# Altium footprint library InkJetFin Footprint Lib.PcbLib: 33 footprints (part 2 of 3)
Each footprint in its own frame and in the unit in brackets; x right, y up, seen from the top. Pads: shape width x height; smd on the part's side, far side on the other; paste and mask are expansions set on the pad; w line width, h text height; cw(c..) or ccw(c..) is an arc to the next point about the centre after c.
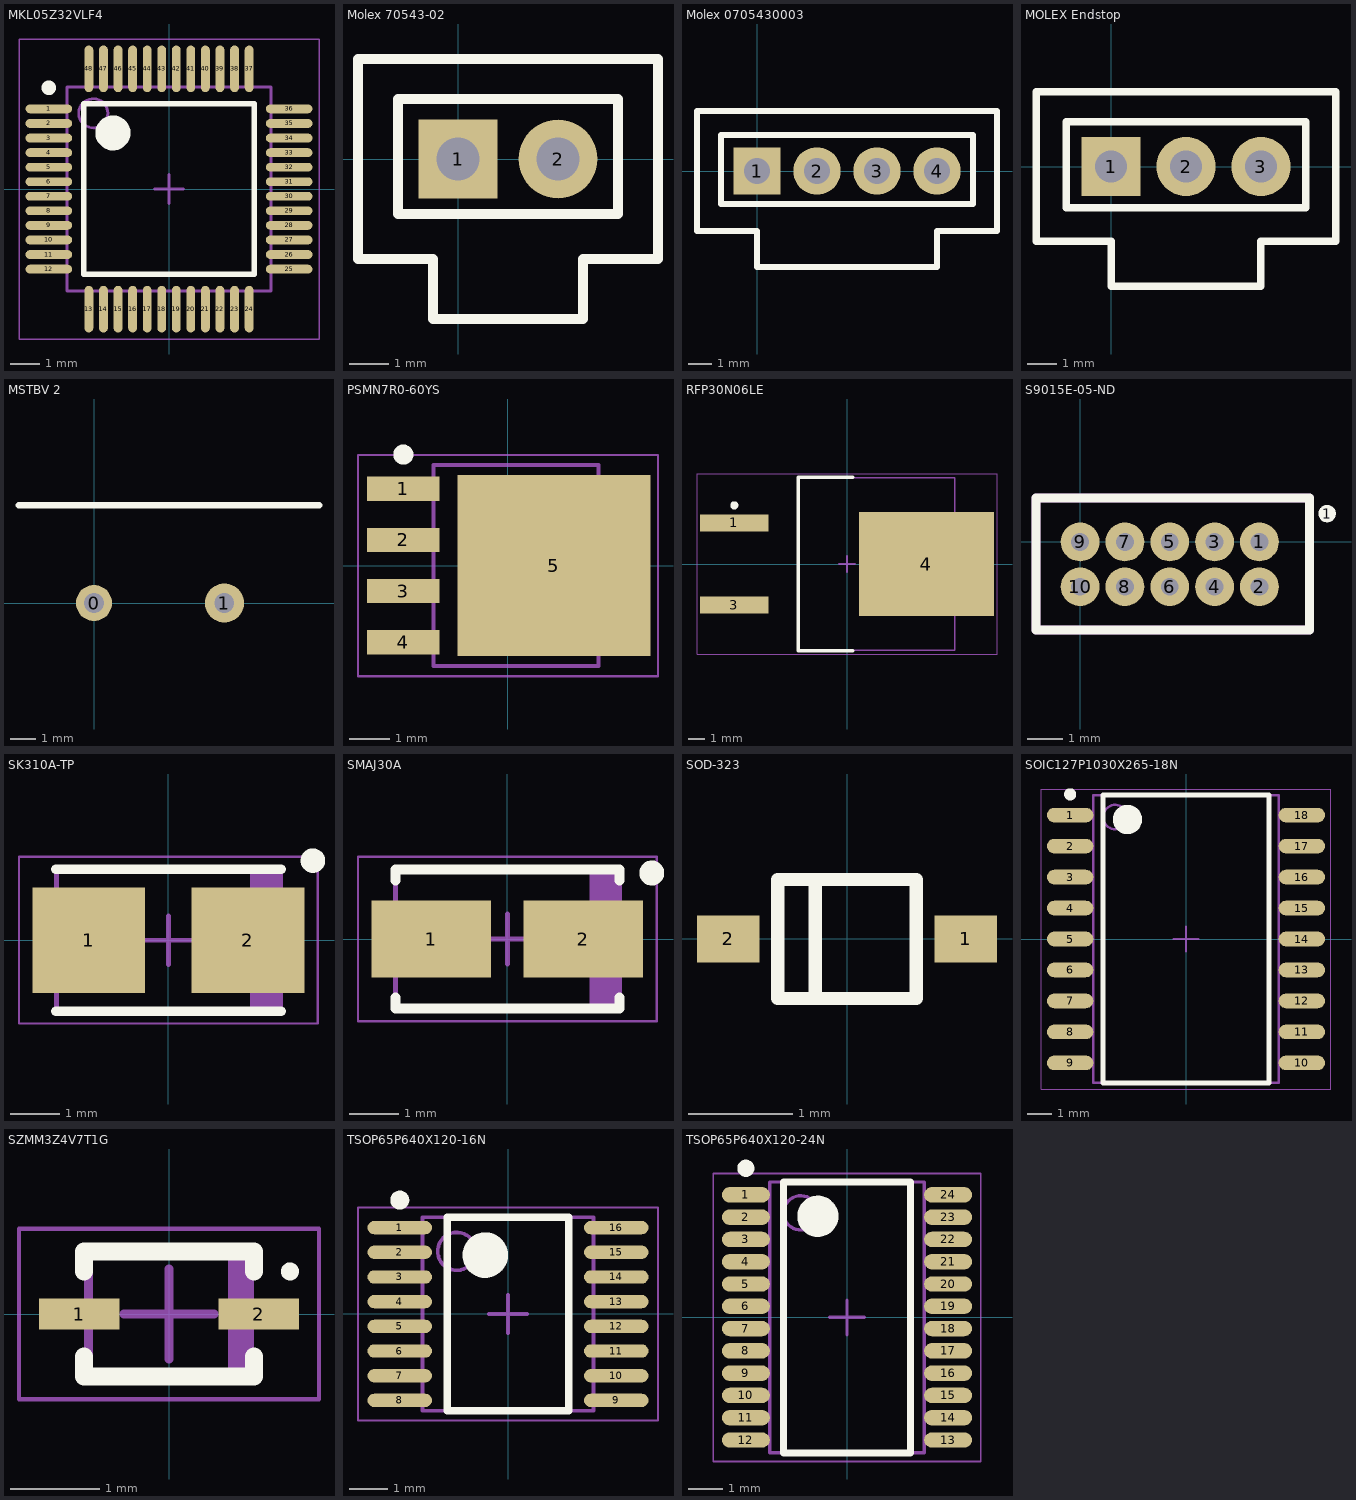
[diagram p1: the footprints below, top view; thin cyan lines are the x and y axes]

## MKL05Z32VLF4 [mm] "TSQFP, 48-Leads, Body 7.00x7.00mm, Pitch 0.50mm, IPC Medium Density"
height 1.6
pads (48):
  oval 1.6x0.3 smd: 1(-4.125,2.75) 2(-4.125,2.25) 3(-4.125,1.75) 4(-4.125,1.25) 5(-4.125,0.75) 6(-4.125,0.25) 7(-4.125,-0.25) 8(-4.125,-0.75) 9(-4.125,-1.25) 10(-4.125,-1.75) 11(-4.125,-2.25) 12(-4.125,-2.75) 25(4.125,-2.75) 26(4.125,-2.25) 27(4.125,-1.75) 28(4.125,-1.25) 29(4.125,-0.75) 30(4.125,-0.25) 31(4.125,0.25) 32(4.125,0.75) 33(4.125,1.25) 34(4.125,1.75) 35(4.125,2.25) 36(4.125,2.75)
  oval 0.3x1.6 smd: 13(-2.75,-4.125) 14(-2.25,-4.125) 15(-1.75,-4.125) 16(-1.25,-4.125) 17(-0.75,-4.125) 18(-0.25,-4.125) 19(0.25,-4.125) 20(0.75,-4.125) 21(1.25,-4.125) 22(1.75,-4.125) 23(2.25,-4.125) 24(2.75,-4.125) 37(2.75,4.125) 38(2.25,4.125) 39(1.75,4.125) 40(1.25,4.125) 41(0.75,4.125) 42(0.25,4.125) 43(-0.25,4.125) 44(-0.75,4.125) 45(-1.25,4.125) 46(-1.75,4.125) 47(-2.25,4.125) 48(-2.75,4.125)
Top Overlay:
  circle w0.25: c-4.125,3.475 r0.125
  circle w0.6: c-1.925,1.925 r0.3
  lines w0.2: -2.925,-2.925 -2.925,2.925 2.925,2.925 2.925,-2.925 -2.925,-2.925
Mechanical 13:
  circle w0.1: c-2.6,2.6 r0.5
  lines w0.1: -3.5,-3.5 -3.5,3.5 3.5,3.5 3.5,-3.5 -3.5,-3.5
Mechanical 15:
  lines w0.05: -5.15,-5.15 -5.15,5.15 5.15,5.15 5.15,-5.15 -5.15,-5.15
  lines w0.1: -0.5,0 0.5,0 ; 0,-0.5 0,0.5
3D body: height 1.6, standoff 0.05, extent -3.5,-3.5 3.5,3.5

## Molex 70543-02 [mm]
pads (2):
  rect 2x2 hole 1.09: 1(0,0)
  round 2 hole 1.09: 2(2.54,0)
Top Overlay:
  lines w0.254: -2.54,-2.54 -2.54,2.54 5.08,2.54 5.08,-2.54 3.175,-2.54 3.175,-4.064 -0.635,-4.064 -0.635,-2.54 -2.54,-2.54 ; -1.524,-1.397 -1.524,-1.27 -1.524,1.524 4.064,1.524 4.064,-1.397 -1.397,-1.397 -1.524,-1.397

## Molex 0705430003 [mm] "4 pin connector"
pads (4):
  rect 2x2 hole 1.09: 1(0,0)
  round 2 hole 1.09: 2(2.54,0) 3(5.08,0) 4(7.62,0)
Top Overlay:
  lines w0.254: -2.54,-2.54 0,-2.54 0,-4.064 7.62,-4.064 7.62,-2.54 10.16,-2.54 10.16,2.54 -2.54,2.54 -2.54,-2.54 ; -1.524,-1.397 -1.397,-1.397 9.144,-1.397 9.144,1.524 -1.524,1.524 -1.524,-1.27 -1.524,-1.397

## MOLEX Endstop [mm]
pads (3):
  rect 2x2 hole 1.09: 1(0,0)
  round 2 hole 1.09: 2(2.54,0) 3(5.08,0)
Top Overlay:
  lines w0.254: -2.54,-2.54 0,-2.54 0,-4.064 5.08,-4.064 5.08,-2.54 7.62,-2.54 7.62,2.54 -2.54,2.54 -2.54,-2.54 ; -1.524,-1.397 -1.397,-1.397 6.604,-1.397 6.604,1.524 -1.524,1.524 -1.524,-1.27 -1.524,-1.397

## MSTBV 2 [mil] "Pheonix Contac MSTBV 2,5/10-GF-5,08"
pads (2):
  round 55.12 hole 30: 0(0,0)
  round 60 hole 30: 1(200,0)
Top Overlay:
  lines w10: -115,149.61 345,149.61

## PCBComponent_1 - duplicate [mm]

## PSMN7R0-60YS [mm] "TO, 5-Pads, Body 5.15x5.86mm (max), IPC Medium Density"
height 1.2
pads (5):
  rect 1.8x0.6 smd: 1(-2.6,1.905) 2(-2.6,0.635) 3(-2.6,-0.635) 4(-2.6,-1.905)
  rect 4.8x4.5 smd: 5(1.14,0)
Top Overlay:
  circle w0.25: c-2.6,2.755 r0.125
Mechanical 13:
  lines w0.1: -1.85,-2.5 2.25,-2.5 2.25,2.5 -1.85,2.5 -1.85,-2.5
Mechanical 15:
  lines w0.05: -3.725,-2.75 3.725,-2.75 3.725,2.75 -3.725,2.75 -3.725,-2.75
  lines w0.1: -0.5,0 0.5,0 ; 0,-0.5 0,0.5
3D body: height 1.2, standoff 0, extent -1.85,-2.5 2.25,2.5

## RFP30N06LE [mm] "D2-PAK, 3-Pads, Body 7.93x8.69mm (max), IPC Medium Density"
height 4.83
pads (3):
  rect 4.2x1.05 smd: 1(-6.95,2.54) 3(-6.95,-2.54)
  rect 8.3x6.4 smd: 4(4.9,0)
Top Overlay:
  circle w0.25: c-6.95,3.615 r0.125
  lines w0.2: 0.35,-5.35 -3,-5.35 -3,5.35 0.35,5.35
Mechanical 13:
  lines w0.1: -3,-5.325 -3,5.325 6.65,5.325 6.65,-5.325 -3,-5.325
Mechanical 15:
  lines w0.05: -9.25,-5.575 -9.25,5.575 9.25,5.575 9.25,-5.575 -9.25,-5.575
  lines w0.1: -0.5,0 0.5,0 ; 0,-0.5 0,0.5
3D body: height 4.83, standoff 0, extent -3,-5.325 6.65,5.325

## S9015E-05-ND [mm] "10 Pin Cortex JTAG Debug Header"
pads (11):
  round 1.1 hole 0.508: 1(5.08,0) 2(5.08,-1.27) 3(3.81,0) 4(3.81,-1.27) 5(2.54,0) 6(2.54,-1.27) 7(1.27,0) 8(1.27,-1.27) 9(0,0) 10(0,-1.27)
  round 0.5 on Top Overlay: 1(7,0.8)
Top Overlay:
  lines w0.254: -1.25,-2.5 -1.25,1.25 6.5,1.25 6.5,-2.5 -1.25,-2.5
Mechanical 13:
  lines w0.254: -1.25,-2.5 -1.25,1.25 6.5,1.25 6.5,-2.5 -1.25,-2.5

## SK310A-TP [mm] "Molded Diode, 2-Leads, Body 4.31x2.69mm, IPC Medium Density"
height 2.95
pads (2):
  rect 2.3x2.15 smd: 1(-1.625,0) 2(1.625,0)
Top Overlay:
  circle w0.25: c2.95,1.625 r0.125
  lines w0.2: -2.3,-1.45 2.3,-1.45 ; -2.3,1.45 2.3,1.45
Mechanical 13:
  rectangle: 1.67,-1.42 2.285,1.42
  lines w0.1: -2.285,-1.42 2.285,-1.42 2.285,1.42 -2.285,1.42 -2.285,-1.42
Mechanical 15:
  lines w0.05: -3.05,-1.7 3.05,-1.7 3.05,1.7 -3.05,1.7 -3.05,-1.7
  lines w0.1: -0.5,0 0.5,0 ; 0,-0.5 0,0.5
3D body: height 2.95, standoff 0, extent -2.285,-1.42 2.285,1.42

## SMAJ30A [mm] "Molded Diode, 2-Leads, Body 4.25x2.67mm, IPC Medium Density"
height 2.29
pads (2):
  rect 2.4x1.55 smd: 1(-1.525,0) 2(1.525,0)
Top Overlay:
  circle w0.25: c2.9,1.325 r0.125
  lines w0.2: -2.25,-1.175 -2.25,-1.4 2.25,-1.4 2.25,-1.175 ; -2.25,1.175 -2.25,1.4 2.25,1.4 2.25,1.175
Mechanical 13:
  rectangle: 1.645,-1.395 2.25,1.395
  lines w0.1: -2.25,-1.395 2.25,-1.395 2.25,1.395 -2.25,1.395 -2.25,-1.395
Mechanical 15:
  lines w0.05: -3,-1.65 3,-1.65 3,1.65 -3,1.65 -3,-1.65
  lines w0.1: -0.5,0 0.5,0 ; 0,-0.5 0,0.5
3D body: height 2.29, standoff 0, extent -2.25,-1.395 2.25,1.395

## SOD-323 [mm]
pads (2):
  rect 0.6x0.45 smd: 1(1.143,0) 2(-1.143,0)
Top Overlay:
  lines w0.127: -0.305,-0.559 -0.305,0.559 ; -0.666,-0.573 -0.666,0.573 0.666,0.573 0.666,-0.573 -0.666,-0.573

## SOIC127P1030X265-18N [mm] "SOIC, 18-Leads, Body 11.55x7.50mm, Pitch 1.27mm, IPC Medium Density"
height 2.65
pads (18):
  oval 1.9x0.6 smd: 1(-4.75,5.08) 2(-4.75,3.81) 3(-4.75,2.54) 4(-4.75,1.27) 5(-4.75,0) 6(-4.75,-1.27) 7(-4.75,-2.54) 8(-4.75,-3.81) 9(-4.75,-5.08) 10(4.75,-5.08) 11(4.75,-3.81) 12(4.75,-2.54) 13(4.75,-1.27) 14(4.75,0) 15(4.75,1.27) 16(4.75,2.54) 17(4.75,3.81) 18(4.75,5.08)
Top Overlay:
  circle w0.25: c-4.75,5.93 r0.125
  circle w0.6: c-2.4,4.9 r0.3
  lines w0.2: -3.4,-5.9 -3.4,5.9 3.4,5.9 3.4,-5.9 -3.4,-5.9
Mechanical 13:
  circle w0.1: c-2.9,5 r0.5
  lines w0.1: -3.8,-5.9 -3.8,5.9 3.8,5.9 3.8,-5.9 -3.8,-5.9
Mechanical 15:
  lines w0.05: -5.925,-6.15 -5.925,6.15 5.925,6.15 5.925,-6.15 -5.925,-6.15
  lines w0.1: -0.5,0 0.5,0 ; 0,-0.5 0,0.5
3D body: height 2.65, standoff 0.1, extent -3.8,-5.9 3.8,5.9

## SZMM3Z4V7T1G [mm] "Molded Diode, 2-Leads, Body 1.70x1.25mm, IPC Medium Density"
height 1
pads (2):
  rect 0.9x0.35 smd: 1(-1,0) 2(1,0)
Top Overlay:
  circle w0.1: c1.35,0.475 r0.05
  lines w0.2: -0.95,-0.475 -0.95,-0.7 0.95,-0.7 0.95,-0.475 ; -0.95,0.475 -0.95,0.7 0.95,0.7 0.95,0.475
Mechanical 13:
  rectangle: 0.658,-0.675 0.9,0.675
  lines w0.1: -0.9,-0.675 -0.9,0.675 0.9,0.675 0.9,-0.675 -0.9,-0.675
Mechanical 15:
  lines w0.05: -1.675,-0.95 -1.675,0.95 1.675,0.95 1.675,-0.95 -1.675,-0.95
  lines w0.1: -0.5,0 0.5,0 ; 0,-0.5 0,0.5
3D body: height 1, standoff 0, extent -0.9,-0.675 0.9,0.675

## TSOP65P640X120-16N [mm] "TSOP, 16-Leads, Body 5.00x4.40mm, Pitch 0.65mm, IPC Medium Density"
height 1.2
pads (16):
  oval 1.7x0.35 smd: 1(-2.85,2.275) 2(-2.85,1.625) 3(-2.85,0.975) 4(-2.85,0.325) 5(-2.85,-0.325) 6(-2.85,-0.975) 7(-2.85,-1.625) 8(-2.85,-2.275) 9(2.85,-2.275) 10(2.85,-1.625) 11(2.85,-0.975) 12(2.85,-0.325) 13(2.85,0.325) 14(2.85,0.975) 15(2.85,1.625) 16(2.85,2.275)
Top Overlay:
  circle w0.6: c-0.6,1.55 r0.3
  circle w0.25: c-2.85,3 r0.125
  lines w0.2: -1.6,-2.55 1.6,-2.55 1.6,2.55 -1.6,2.55 -1.6,-2.55
Mechanical 13:
  circle w0.1: c-1.35,1.65 r0.5
  lines w0.1: -2.25,-2.55 2.25,-2.55 2.25,2.55 -2.25,2.55 -2.25,-2.55
Mechanical 15:
  lines w0.05: -3.95,-2.8 3.95,-2.8 3.95,2.8 -3.95,2.8 -3.95,-2.8
  lines w0.1: -0.5,0 0.5,0 ; 0,-0.5 0,0.5
3D body: height 1.2, standoff 0.25, extent -2.25,-2.55 2.25,2.55

## TSOP65P640X120-24N [mm] "TSOP, 24-Leads, Body 7.80x4.40mm, Pitch 0.65mm, IPC Medium Density"
height 1.2
pads (24):
  oval 1.4x0.45 smd: 1(-2.95,3.575) 2(-2.95,2.925) 3(-2.95,2.275) 4(-2.95,1.625) 5(-2.95,0.975) 6(-2.95,0.325) 7(-2.95,-0.325) 8(-2.95,-0.975) 9(-2.95,-1.625) 10(-2.95,-2.275) 11(-2.95,-2.925) 12(-2.95,-3.575) 13(2.95,-3.575) 14(2.95,-2.925) 15(2.95,-2.275) 16(2.95,-1.625) 17(2.95,-0.975) 18(2.95,-0.325) 19(2.95,0.325) 20(2.95,0.975) 21(2.95,1.625) 22(2.95,2.275) 23(2.95,2.925) 24(2.95,3.575)
Top Overlay:
  circle w0.6: c-0.85,2.95 r0.3
  circle w0.25: c-2.95,4.35 r0.125
  lines w0.2: -1.85,-3.95 1.85,-3.95 1.85,3.95 -1.85,3.95 -1.85,-3.95
Mechanical 13:
  circle w0.1: c-1.35,3.05 r0.5
  lines w0.1: -2.25,-3.95 2.25,-3.95 2.25,3.95 -2.25,3.95 -2.25,-3.95
Mechanical 15:
  lines w0.05: -3.9,-4.2 3.9,-4.2 3.9,4.2 -3.9,4.2 -3.9,-4.2
  lines w0.1: -0.5,0 0.5,0 ; 0,-0.5 0,0.5
3D body: height 1.2, standoff 0.15, extent -2.25,-3.95 2.25,3.95